# Altium footprint library Passive components.PcbLib: 13 footprints
Each footprint in its own frame and in the unit in brackets; x right, y up, seen from the top. Pads: shape width x height; smd on the part's side, far side on the other; paste and mask are expansions set on the pad; w line width, h text height; cw(c..) or ccw(c..) is an arc to the next point about the centre after c.
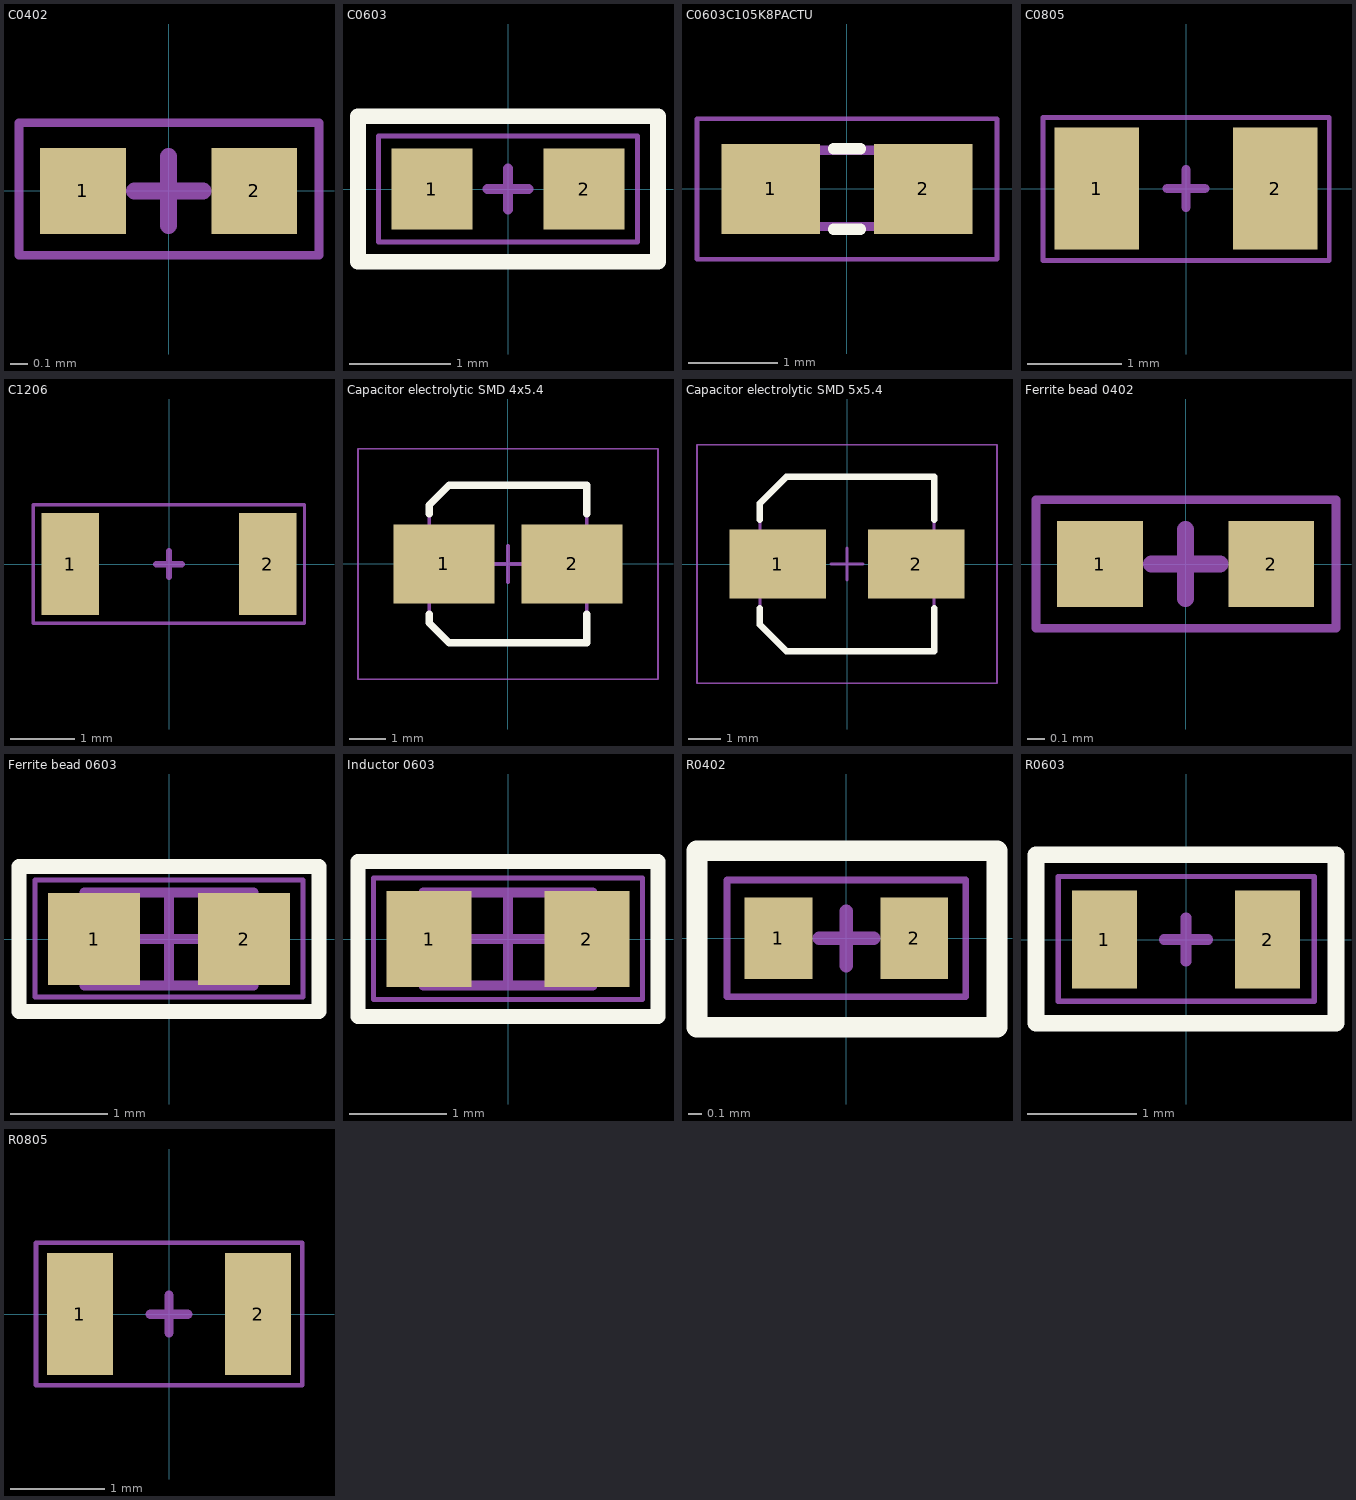
[diagram p0: the footprints below, top view; thin cyan lines are the x and y axes]

## C0402 [mm]
pads (2):
  rect 0.5x0.5 smd: 1(-0.5,0) 2(0.5,0)
Courtyard Top:
  lines w0.05: -0.873,-0.375 0.877,-0.375 0.877,0.398 -0.873,0.398 -0.873,-0.375
  lines w0.1: -0.2,0 0.2,0 ; 0,-0.2 0,0.2
3D body "User Library-C0402-1.STEP": height 0.5, standoff 0, extent -0.498,-0.25 0.498,0.25

## C0603 [mm]
pads (2):
  rect 0.8x0.8 smd: 1(-0.75,0) 2(0.75,0)
Top Overlay:
  lines w0.153: -1.48,-0.72 1.48,-0.72 1.48,0.72 -1.48,0.72 -1.48,-0.72
Courtyard Top:
  lines w0.05: -1.277,-0.525 1.276,-0.525 1.276,0.525 -1.277,0.525 -1.277,-0.525
  lines w0.1: -0.2,0 0.2,0 ; 0,-0.2 0,0.2
3D body "User Library-C0603-2.STEP": height 0.8, standoff 0, extent -0.8,-0.4 0.8,0.4

## C0603C105K8PACTU [mm] "C0603"
pads (2):
  rect 1.1x1 smd: 1(-0.85,0) 2(0.85,0)
Top Overlay:
  lines w0.127: -0.15,-0.45 0.15,-0.45 ; -0.15,0.45 0.15,0.45
Courtyard Top:
  region: 0.331,0.48 0.83,0.48 0.83,-0.471 0.331,-0.471
  region: -0.839,0.48 -0.338,0.48 -0.338,-0.47 -0.839,-0.47
  region: 0.331,0.48 0.83,0.48 0.83,-0.471 0.331,-0.471
  region: -0.839,0.48 -0.338,0.48 -0.338,-0.47 -0.839,-0.47
  lines w0.102: -0.356,-0.419 0.356,-0.419 -0.356,-0.419 ; -0.356,0.432 0.356,0.432 -0.356,0.432
Mechanical 16:
  lines w0.051: -1.673,-0.783 -1.673,0.783 1.673,0.783 1.673,-0.783 -1.673,-0.783

## C0805 [mm]
pads (2):
  rect 0.9x1.3 smd: 1(-0.95,0) 2(0.95,0)
Courtyard Top:
  lines w0.05: -1.525,-0.768 1.527,-0.768 1.527,0.758 -1.525,0.758 -1.525,-0.768
  lines w0.1: -0.2,0 0.2,0 ; 0,-0.2 0,0.2
3D body "User Library-C0805-2.STEP": height 0.8, standoff 0, extent -1,-0.625 1,0.625

## C1206 [mm]
pads (2):
  rect 0.9x1.6 smd: 1(-1.55,0) 2(1.55,0)
Courtyard Top:
  lines w0.05: -2.128,-0.926 -2.128,0.931 2.123,0.931 2.123,-0.926 -2.128,-0.926
  lines w0.1: -0.2,0 0.2,0 ; 0,-0.2 0,0.2
3D body "User Library-Chip Cap_MLCC_1206 (3216)_D.STEP": height 1.25, standoff 0, extent -1.6,-0.8 1.6,0.8

## Capacitor electrolytic SMD 4x5.4 [mm] "Aluminum Electrolytic Capacitor, Body 4.30x4.30x5.40mm, IPC Low Density"
height 5.4
pads (2):
  rect 2.75x2.15 smd: 1(-1.75,0) 2(1.75,0)
Top Overlay:
  lines w0.2: -2.15,-1.375 -2.15,-1.613 -1.612,-2.15 2.15,-2.15 2.15,-1.375 ; -2.15,1.375 -2.15,1.612 -1.612,2.15 2.15,2.15 2.15,1.375
Assembly Top:
  lines w0.1: -2.15,-1.613 -1.612,-2.15 2.15,-2.15 2.15,2.15 -1.612,2.15 -2.15,1.612 -2.15,-1.613
Courtyard Top:
  lines w0.05: -4.1,-3.15 -4.1,3.15 4.1,3.15 4.1,-3.15 -4.1,-3.15
  lines w0.1: -0.5,0 0.5,0 ; 0,-0.5 0,0.5
3D body "CAPAE4643X54M.step": height 5.4, standoff 0, extent -2.3,-2.15 2.3,2.15

## Capacitor electrolytic SMD 5x5.4 [mm] "Aluminum Electrolytic Capacitor, Body 5.30x5.30x5.40mm, IPC Low Density"
height 5.4
pads (2):
  rect 3x2.15 smd: 1(-2.15,0) 2(2.15,0)
Top Overlay:
  lines w0.2: -2.7,-1.375 -2.7,-1.888 -1.888,-2.7 2.7,-2.7 2.7,-1.375 ; -2.7,1.375 -2.7,1.887 -1.888,2.7 2.7,2.7 2.7,1.375
Assembly Top:
  lines w0.1: -2.7,-1.888 -2.7,1.887 -1.888,2.7 2.7,2.7 2.7,-2.7 -1.888,-2.7 -2.7,-1.888
Courtyard Top:
  lines w0.05: -4.65,-3.7 4.65,-3.7 4.65,3.7 -4.65,3.7 -4.65,-3.7
  lines w0.1: -0.5,0 0.5,0 ; 0,-0.5 0,0.5
3D body "CAPAE5753X54M.step": height 5.4, standoff 0, extent -2.85,-2.7 2.85,2.7

## Ferrite bead 0402 [mm]
pads (2):
  rect 0.5x0.5 smd: 1(-0.5,0) 2(0.5,0)
Courtyard Top:
  lines w0.05: -0.873,-0.375 0.877,-0.375 0.877,0.376 -0.873,0.376 -0.873,-0.375
  lines w0.1: -0.2,0 0.2,0 ; 0,-0.2 0,0.2
3D body "User Library-FB_1005.STEP": height 0.5, standoff 0, extent -0.5,-0.25 0.5,0.25

## Ferrite bead 0603 [mm]
height 0.91
pads (2):
  rect 0.95x0.95 smd: 1(-0.775,0) 2(0.775,0)
Top Overlay:
  lines w0.153: -1.55,-0.75 -1.55,0.75 1.55,0.75 1.55,-0.75 -1.55,-0.75
Assembly Top:
  lines w0.1: -0.875,-0.48 0.875,-0.48 0.875,0.48 -0.875,0.48 -0.875,-0.48
Courtyard Top:
  lines w0.05: -1.385,-0.6 1.386,-0.6 1.386,0.611 -1.385,0.611 -1.385,-0.6
  lines w0.1: -0.48,0 0.48,0 ; 0,-0.48 0,0.48
3D body "User Library-FB_1608-1.STEP": height 0.8, standoff 0, extent -0.794,-0.403 0.806,0.397

## Inductor 0603 [mm]
height 0.91
pads (2):
  rect 0.88x0.99 smd: 1(-0.815,0) 2(0.815,0)
Top Overlay:
  lines w0.153: -1.55,-0.8 -1.55,0.8 1.55,0.8 1.55,-0.8 -1.55,-0.8
Assembly Top:
  lines w0.1: -0.875,-0.48 0.875,-0.48 0.875,0.48 -0.875,0.48 -0.875,-0.48
Courtyard Top:
  lines w0.05: -1.389,-0.626 1.391,-0.626 1.391,0.631 -1.389,0.631 -1.389,-0.626
  lines w0.1: -0.48,0 0.48,0 ; 0,-0.48 0,0.48
3D body "INDC1608X09N.step": height 0.91, standoff 0, extent -0.875,-0.48 0.875,0.48

## R0402 [mm]
pads (2):
  rect 0.5x0.6 smd: 1(-0.5,0) 2(0.5,0)
Top Overlay:
  lines w0.153: -1.1,-0.655 -1.1,0.645 1.11,0.645 1.11,-0.655 -1.1,-0.655
Courtyard Top:
  lines w0.05: -0.88,-0.43 -0.88,0.429 0.88,0.429 0.88,-0.43 -0.88,-0.43
  lines w0.1: -0.2,0 0.2,0 ; 0,-0.2 0,0.2
3D body "User Library-R_0402.STEP": height 0.35, standoff 0, extent -0.5,-0.25 0.5,0.25

## R0603 [mm]
pads (2):
  rect 0.6x0.9 smd: 1(-0.75,0) 2(0.75,0)
Top Overlay:
  lines w0.153: -1.38,-0.77 1.38,-0.77 1.38,0.78 -1.38,0.78 -1.38,-0.77
Courtyard Top:
  lines w0.05: -1.174,-0.566 -1.174,0.58 1.179,0.58 1.179,-0.566 -1.174,-0.566
  lines w0.1: -0.2,0 0.2,0 ; 0,-0.2 0,0.2
3D body "User Library-R_0603.STEP": height 0.5, standoff 0, extent -0.8,-0.45 0.8,0.45

## R0805 [mm]
pads (2):
  rect 0.7x1.3 smd: 1(-0.95,0) 2(0.95,0)
Courtyard Top:
  lines w0.05: -1.418,-0.757 1.42,-0.757 1.42,0.76 -1.418,0.76 -1.418,-0.757
  lines w0.1: -0.2,0 0.2,0 ; 0,-0.2 0,0.2
3D body "User Library-R_0805.STEP": height 0.5, standoff 0, extent -1,-0.625 1,0.625